# Altium schematic symbol library TMM-110-03-S-D.SchLib: 1 symbol
Pins are listed as number, name and electrical type; pins without a type are passive.

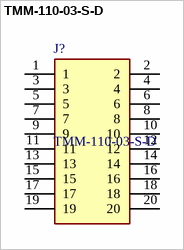
[diagram p0: symbol TMM-110-03-S-D]

## TMM-110-03-S-D
designator J?
Headers & Wire Housings Low Profile Tiger Eye Header Strips, 2.00 mm Pitch 20pos 10 per row double row header; Manufacturer_Name: SAMTEC; Geometry.Height: 5.75mm; Manufacturer_Part_Number: TMM-110-03-S-D; Mouser Part Number: *; Mouser Price/Stock: *; Arrow Part Number: *; Arrow Price/Stock: *; Datasheet Link: https://suddendocs.samtec.com/prints/tmm-1xx-xx-xx-x-xx-xxx-mkt1.pdf?_gl=1*73eo0b*_ga*MTA2MjMwMjY5Ny4xNjcwNzQ1Mjgy*_ga_3KFNZC07WW*MTY3ODk3OTE3MS40Ni4xLjE2Nzg5NzkzNDQuNjAuMC4w
footprint HDRV20W50P200_2X10_2000X394X575P
pins: 1, 2, 3, 4, 5, 6, 7, 8, 9, 10, 11, 12, 13, 14, 15, 16, 17, 18, 19, 20